# Altium footprint library SOIC127P599X175-8L28N.PcbLib: 1 footprints
Each footprint in its own frame and in the unit in brackets; x right, y up, seen from the top. Pads: shape width x height; smd on the part's side, far side on the other; paste and mask are expansions set on the pad; w line width, h text height; cw(c..) or ccw(c..) is an arc to the next point about the centre after c.
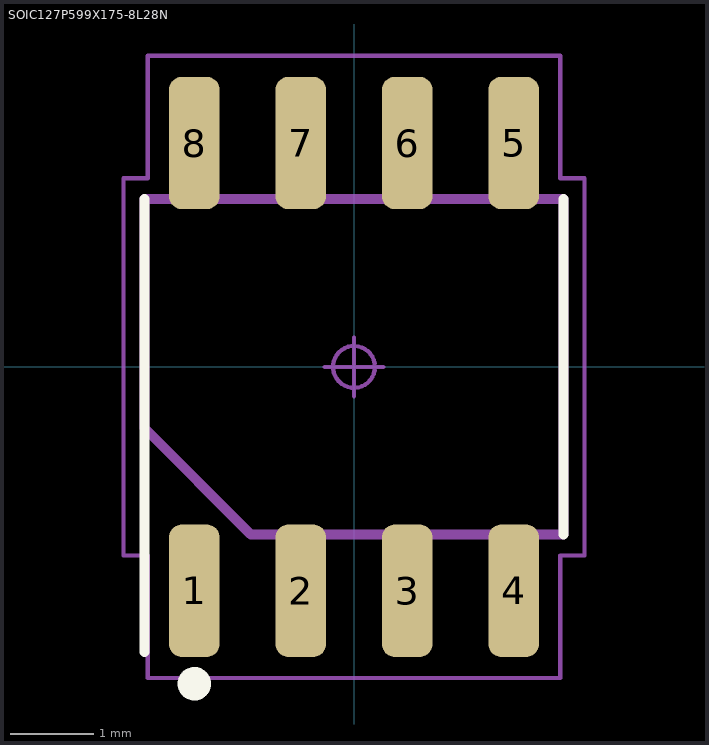
[diagram p0: the footprint, top view; thin cyan lines are the x and y axes]

## SOIC127P599X175-8L28N [mm] "Small Outline IC (SOIC), 1.27 mm pitch; 8 pin, 4.90 mm L X 3.85 mm W X 1.75 mm H body"
height 1.75
pads (8):
  rrect50% 0.6x1.58 smd: 1(-1.905,-2.67) 2(-0.635,-2.67) 3(0.635,-2.67) 4(1.905,-2.67) 5(1.905,2.67) 6(0.635,2.67) 7(-0.635,2.67) 8(-1.905,2.67)
Top Overlay:
  circle w0.2: c-1.905,-3.78 r0.1
  lines w0.12: -2.5,-3.4 -2.5,2 ; 2.5,-2 2.5,2
Mechanical 11:
  lines w0.12: -2.5,-0.73 -1.23,-2 2.5,-2 2.5,2 -2.5,2 -2.5,-0.73
Mechanical 15:
  circle w0.05: c0,0 r0.25
  lines w0.05: -0.35,0 0.35,0 ; 0,-0.35 0,0.35 ; -2.75,-2.25 -2.46,-2.25 -2.46,-3.71 2.46,-3.71 2.46,-2.25 2.75,-2.25 2.75,2.25 2.46,2.25 2.46,3.71 -2.46,3.71 -2.46,2.25 -2.75,2.25 -2.75,-2.25
3D body: height 1.75, standoff 0, extent -2.45,-3 2.45,3